# Altium schematic symbol library BYV44-500,127.Schlib: 1 symbol
Pins are listed as number, name and electrical type; pins without a type are passive.

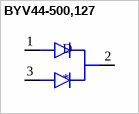
[diagram p0: symbol BYV44-500,127]

## BYV44-500,127
designator D
DIODE ARRAY GP 500V 30A TO220AB
pins: 1 ANODE1, 2 COMMON_CATHODE, 3 ANODE2